# Altium footprint library PcbLib2.PcbLib: 27 footprints (part 1 of 2)
Each footprint in its own frame and in the unit in brackets; x right, y up, seen from the top. Pads: shape width x height; smd on the part's side, far side on the other; paste and mask are expansions set on the pad; w line width, h text height; cw(c..) or ccw(c..) is an arc to the next point about the centre after c.
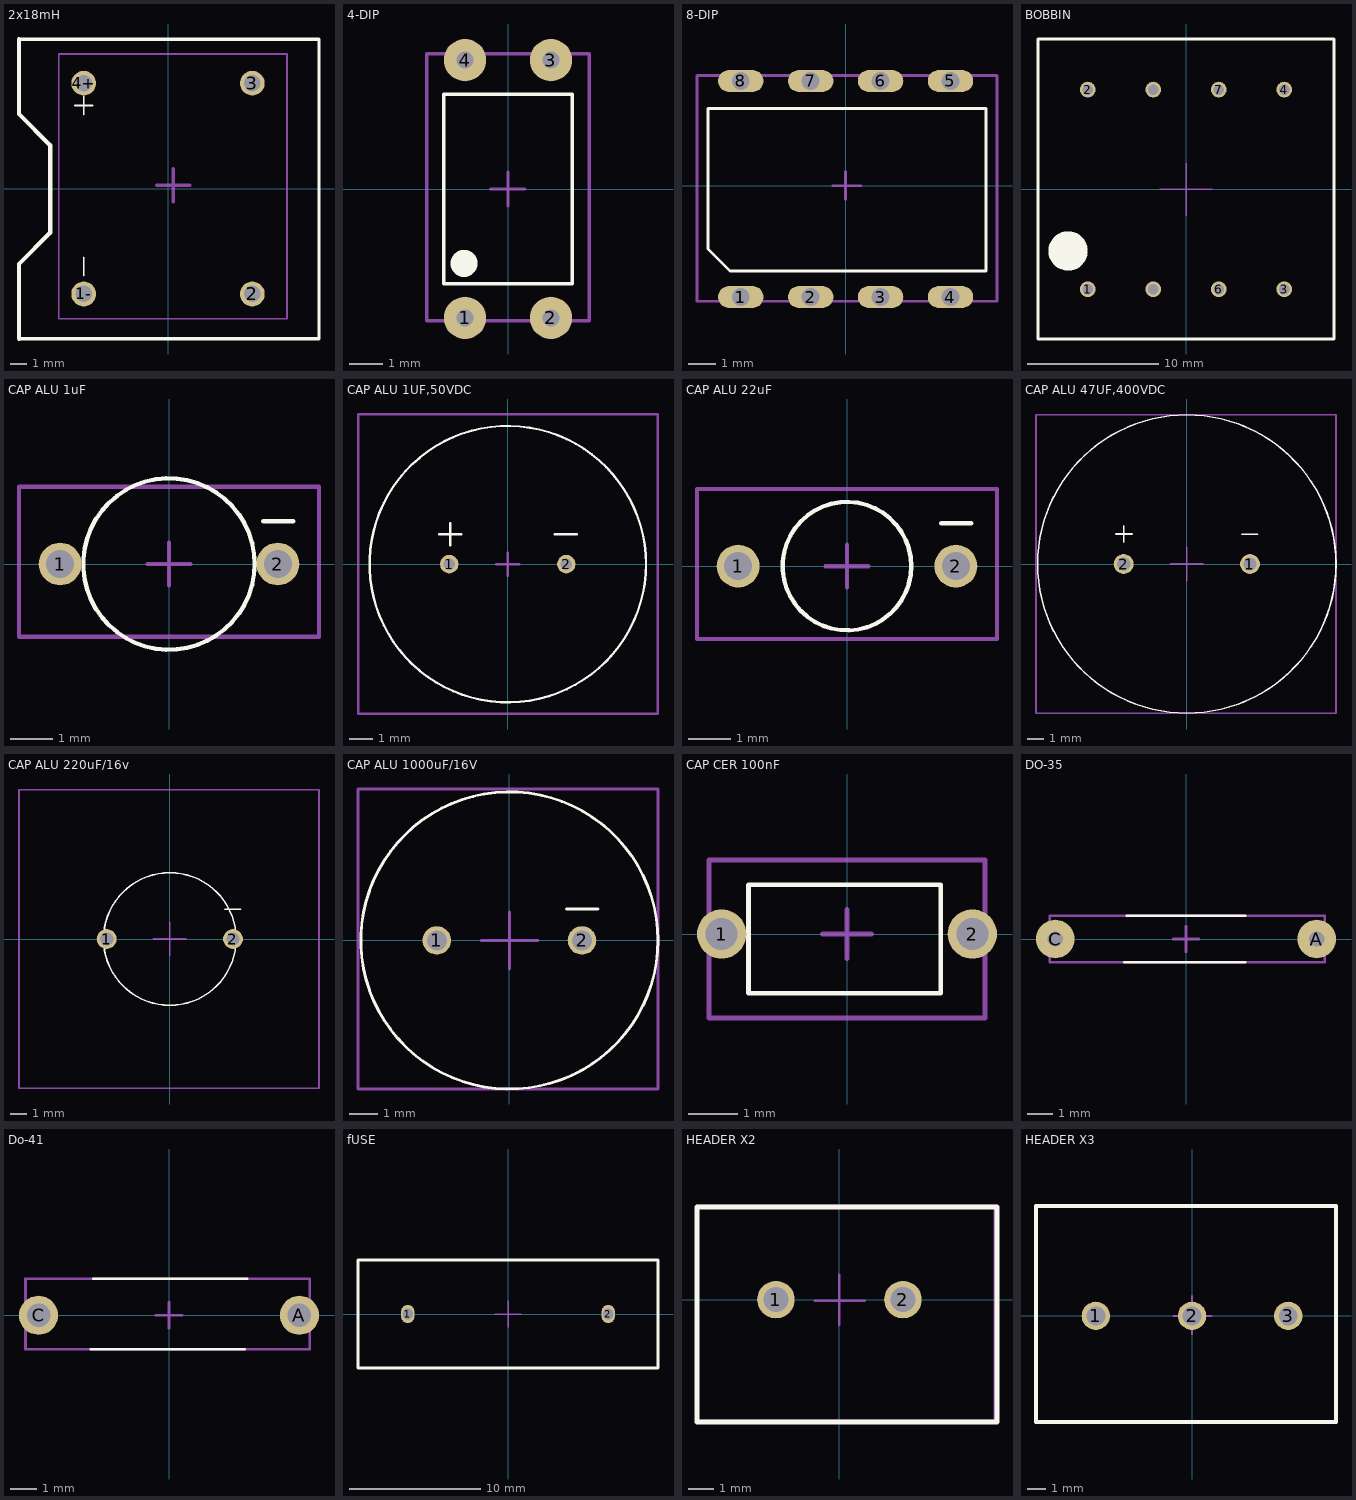
[diagram p0: the footprints below, top view; thin cyan lines are the x and y axes]

## 2x18mH [mm]
pads (4):
  round 1.5 hole 1 mask+0.05: 1-(-5.08,-6.35) 2(5.08,-6.35) 3(5.08,6.35) 4+(-5.08,6.35)
Top Overlay:
  lines w0.1: -5.63,5.01 -4.53,5.01 ; -5.08,-5.24 -5.08,-4.14 ; -5.08,4.46 -5.08,5.56
  lines w0.2: -8.98,-9.05 9.1,-9.05 9.1,9 -8.98,9
  lines w0.254: -8.98,-9.05 -8.98,-4.537 -7.1,-2.658 -7.1,2.608 -8.98,4.487 -8.98,9
Top Component Center (Mech3):
  lines w0.1: -6.58,-7.84 7.17,-7.84 7.17,8.11 -6.58,8.11 -6.58,-7.84
  lines w0.2: -0.68,0.21 1.32,0.21 ; 0.32,-0.79 0.32,1.21
Top Designator:
  lines w0.1: -6.58,-7.84 -6.58,8.11 7.17,8.11 7.17,-7.84 -6.58,-7.84
  text "'.Designator'" at -2.68,-0.29 h0.5
3D body "UU10A.STEP": height 17.3, standoff -2.3, extent -7.5,-8.392 7.5,8.4

## 4-DIP [mm]
pads (4):
  round 1.25 hole 0.5 mask+0.05: 1(-1.27,-3.81) 2(1.27,-3.81) 3(1.27,3.81) 4(-1.27,3.81)
Top Overlay:
  circle w0.6: c-1.3,-2.2 r0.1
  lines w0.1: -1.9,-2.8 -1.9,2.8 1.9,2.8 1.9,-2.8 -1.9,-2.8
Mechanical 1:
  lines w0.1: 2.4,-3.9 -2.4,-3.9 -2.4,4 2.4,4 ; 2.4,-3.9 2.4,4 ; 2.4,-3.9 2.4,4
Top Component Center (Mech3):
  lines w0.1: -0.505,0 0.495,0 ; 0,-0.5 0,0.5 ; 2.4,-3.9 2.4,4 ; 2.4,-3.9 2.4,4 ; 2.4,-3.9 -2.4,-3.9 -2.4,4 2.4,4
Top Designator:
  lines w0.1: 2.4,-3.9 -2.4,-3.9 -2.4,4 2.4,4 ; 2.4,-3.9 2.4,4 ; 2.4,-3.9 2.4,4
  text "'.Designator'" at -2.7,-0.4 h0.5
3D body "DIP4.STEP": height 5.2, standoff -2.1, extent -2.36,-3.935 2.36,3.935

## 8-DIP [mm]
pads (8):
  oval 1.65x0.8 hole 0.65 mask+0.05: 1(-3.81,-4.05) 2(-1.27,-4.05) 3(1.27,-4.05) 4(3.81,-4.05) 5(3.81,3.8) 6(1.27,3.8) 7(-1.27,3.8) 8(-3.81,3.8)
Top Overlay:
  lines w0.1: -5,-2.3 -5,2.8 5.1,2.8 5.1,-3.1 -4.2,-3.1 -5,-2.3
Mechanical 1:
  lines w0.1: -5.4,-4.2 5.5,-4.2 5.5,4 -5.4,4 -5.4,-4.2
Top Component Center (Mech3):
  lines w0.1: -0.464,-0.006 0.536,-0.006 ; 0,-0.5 0,0.5 ; -5.4,-4.2 -5.4,4 5.5,4 5.5,-4.2 -5.4,-4.2
Top Designator:
  lines w0.1: -5.4,-4.2 -5.4,4 5.5,4 5.5,-4.2 -5.4,-4.2
  text "'.Designator'" at -2.8,-0.4 h0.5
3D body "Minidip_STM.step": height 5.21, standoff -2.54, extent -5.422,-4.164 5.5,3.964

## BOBBIN [mm]
pads (8):
  round 1.2 hole 0.8 mask+0.05: 1(-7.5,-7.62) 2(-7.5,7.62) 3(7.5,-7.62) 4(7.5,7.62) 6(2.5,-7.62) 7(2.5,7.62) ""(-2.5,-7.62) ""(-2.5,7.62)
Top Overlay:
  circle w1.6: c-9,-4.7 r0.7
  lines w0.2: -11.3,-11.42 8.8,-11.42 11.3,-11.42 11.3,11.48 -11.3,11.48 -11.3,-11.42
Top Component Center (Mech3):
  lines w0.1: -2,0 2,0 ; 0,-2 0,2
Top Designator:
  text "'.Designator'" at -8.8,-1.2 h1.5
3D body "c61036-a0014-c001-E20-10.stp": height 5.91, standoff 0.01, extent -10.7,-10.12 -0.6,10.28
3D body "c61036-a0014-c001-E20-10.stp": height 5.91, standoff 0.01, extent 0.7,-10.12 10.8,10.28
3D body: height 8, standoff 0, extent -3.75,-4.5 3.75,4.5

## CAP ALU 1uF [mm]
pads (2):
  round 1 hole 0.65 mask+0.05: 1(-2.54,0) 2(2.54,0)
Top Overlay:
  circle w0.1: c0,0 r2
  lines w0.1: 2.2,1 2.9,1
Mechanical 1:
  lines w0.1: -3.5,-1.7 -3.5,1.8 3.5,1.8 3.5,-1.7 -3.5,-1.7
Top Component Center (Mech3):
  lines w0.1: -0.5,0 0.5,0 ; 0,-0.5 0,0.5 ; -3.5,-1.7 3.5,-1.7 3.5,1.8 -3.5,1.8 -3.5,-1.7
Top Designator:
  lines w0.1: -3.5,-1.7 3.5,-1.7 3.5,1.8 -3.5,1.8 -3.5,-1.7
  text "'.Designator'" at -3,-0.5 h0.5
3D body "CAP_2128_10X7X3_5_VIS.step": height 12.01, standoff -2.52, extent -3.505,-1.706 3.505,1.8

## CAP ALU 1UF,50VDC [mm]
pads (2):
  round 0.8 hole 0.5 mask+0.05: 1(-2.54,0) 2(2.54,0)
Top Overlay:
  circle w0.1: c0,0 r6
  lines w0.1: -2.987,1.3 -2.013,1.3 ; -2.5,0.813 -2.5,1.787 ; 2.025,1.3 3,1.3
Mechanical 1:
  lines w0.1: -6.48,-6.488 -6.48,6.512 6.52,6.512 6.52,-6.488 -6.48,-6.488
Top Component Center (Mech3):
  lines w0.1: -0.5,0 0.5,0 ; 0,-0.5 0,0.5 ; -6.5,-6.5 -6.5,6.5 6.5,6.5 6.5,-6.5 -6.5,-6.5
Top Designator:
  lines w0.1: -6.5,-6.5 -6.5,6.5 6.5,6.5 6.5,-6.5 -6.5,-6.5
  text "'.Designator'" at -2.8,-0.4 h0.5
3D body "D13_F5_LT(AP242).stp": height 15.3, standoff -4.1, extent -6.54,-6.5 6.463,6.5

## CAP ALU 22uF [mm]
pads (2):
  round 1 hole 0.65 mask+0.05: 1(-2.54,0) 2(2.54,0)
Top Overlay:
  circle w0.1: c0,0 r1.5
  lines w0.1: 2.2,1 2.9,1
Mechanical 1:
  lines w0.1: -3.5,-1.7 -3.5,1.8 3.5,1.8 3.5,-1.7 -3.5,-1.7
Top Component Center (Mech3):
  lines w0.1: -0.5,0 0.5,0 ; 0,-0.5 0,0.5 ; -3.5,-1.7 3.5,-1.7 3.5,1.8 -3.5,1.8 -3.5,-1.7
Top Designator:
  lines w0.1: -3.5,-1.7 3.5,-1.7 3.5,1.8 -3.5,1.8 -3.5,-1.7
  text "'.Designator'" at -3,-0.5 h0.5
3D body "CAP_2128_10X7X3_5_VIS.step": height 12.01, standoff -2.52, extent -3.505,-1.706 3.505,1.8

## CAP ALU 47UF,400VDC [mm]
pads (2):
  round 1.2 hole 0.8 mask+0.05: 1(3.81,0) 2(-3.81,0)
Top Overlay:
  circle w0.1: c0,0 r9
  lines w0.1: -4.287,1.813 -3.313,1.813 ; -3.8,1.325 -3.8,2.3 ; 3.313,1.8 4.287,1.8
Mechanical 1:
  lines w0.1: -9.1,-9 9,-9 9,9 -9.1,9 -9.1,-9
Top Component Center (Mech3):
  lines w0.1: -1,0 1,0 ; 0,-1 0,1 ; -9.1,-9 -9.1,9 9,9 9,-9 -9.1,-9
Top Designator:
  lines w0.1: -9.1,-9 -9.1,9 9,9 9,-9 -9.1,-9
  text "'.Designator'" at -3,-0.4 h0.5
3D body "CAP_UBY_18X20_NCH.step": height 22, standoff -4.48, extent -9.054,-9.001 8.99,9.001

## CAP ALU 220uF/16v [mm]
pads (2):
  round 1.2 hole 0.8 mask+0.05: 1(-3.81,0) 2(3.81,0)
Top Overlay:
  circle w0.1: c0,0 r4
  lines w0.1: 3.313,1.8 4.287,1.8
Mechanical 1:
  lines w0.1: -9.1,-9 9,-9 9,9 -9.1,9 -9.1,-9
Top Component Center (Mech3):
  lines w0.1: -1,0 1,0 ; 0,-1 0,1 ; -9.1,-9 -9.1,9 9,9 9,-9 -9.1,-9
Top Designator:
  lines w0.1: -9.1,-9 -9.1,9 9,9 9,-9 -9.1,-9
  text "'.Designator'" at -3,-0.4 h0.5
3D body "CAP_UBY_18X20_NCH.step": height 22, standoff -4.48, extent -9.054,-9.001 8.99,9.001

## CAP ALU 1000uF/16V [mm]
pads (2):
  round 1 hole 0.7 mask+0.05: 1(-2.54,0) 2(2.54,0)
Top Overlay:
  circle w0.1: c0,0 r5.2
  lines w0.1: 2,1.1 3.1,1.1
Mechanical 1:
  lines w0.1: -5.3,-5.2 5.2,-5.2 5.2,5.3 -5.3,5.3 -5.3,-5.2
Top Component Center (Mech3):
  lines w0.1: -1,0 1,0 ; 0,-1 0,1 ; -5.3,-5.2 -5.3,5.3 5.2,5.3 5.2,-5.2 -5.3,-5.2
Top Designator:
  lines w0.1: -5.3,-5.2 -5.3,5.3 5.2,5.3 5.2,-5.2 -5.3,-5.2
  text "'.Designator'" at -2.9,-0.4 h0.5
3D body "CAP_YX_10X16_RUB.step": height 14.21, standoff -4.17, extent -5.285,-5.242 5.229,5.242

## CAP CER 100nF [mm]
pads (2):
  round 1 hole 0.65 mask+0.05: 1(-2.54,0) 2(2.54,0)
Top Overlay:
  lines w0.1: -2,-1.2 -2,1 1.9,1 1.9,-1.2 -2,-1.2
Mechanical 1:
  lines w0.1: -2.8,-1.7 2.8,-1.7 2.8,1.5 -2.8,1.5 -2.8,-1.7
Top Component Center (Mech3):
  lines w0.1: -0.5,0 0.5,0 ; 0,-0.5 0,0.5 ; -2.8,-1.7 -2.8,1.5 2.8,1.5 2.8,-1.7 -2.8,-1.7
Top Designator:
  lines w0.1: -2.8,-1.7 -2.8,1.5 2.8,1.5 2.8,-1.7 -2.8,-1.7
  text "'.Designator'" at -3,-0.5 h0.5
3D body "C322C104K5R5TA.step": height 7.83, standoff -5.79, extent -2.81,-1.685 2.823,1.5

## DO-35 [mm]
pads (2):
  round 1.5 hole 0.6 mask+0.05: A(5.08,0) C(-5.08,0)
Top Overlay:
  lines w0.1: -2.4,-0.9 2.3,-0.9 ; -2.3,0.9 2.3,0.9
Mechanical 1:
  lines w0.1: -5.3,-0.9 -5.3,0.9 5.4,0.9 5.4,-0.9 -5.3,-0.9
Top Component Center (Mech3):
  lines w0.1: -0.5,0 0.5,0 ; 0,-0.5 0,0.5 ; -5.3,-0.9 5.4,-0.9 5.4,0.9 -5.3,0.9 -5.3,-0.9
Top Designator:
  lines w0.1: -5.3,-0.9 5.4,-0.9 5.4,0.9 -5.3,0.9 -5.3,-0.9
  text "'.Designator'" at -1.1,-0.2 h0.2
3D body "User Library-do_35.step": height 2.25, standoff -2.44, extent -5.327,-0.9 5.366,0.853

## Do-41 [mm]
pads (2):
  round 1.5 hole 0.9 mask+0.05: A(5,0) C(-5,0)
Top Overlay:
  lines w0.1: -3,-1.3 2.9,-1.3 ; -2.9,1.4 3,1.4
Mechanical 1:
  lines w0.1: -5.5,-1.3 5.4,-1.3 5.4,1.4 -5.5,1.4 -5.5,-1.3
Top Component Center (Mech3):
  lines w0.1: -0.5,0 0.5,0 ; 0,-0.5 0,0.5 ; -5.5,-1.3 5.4,-1.3 5.4,1.4 -5.5,1.4 -5.5,-1.3
Top Designator:
  lines w0.1: -5.5,-1.3 -5.5,1.4 5.4,1.4 5.4,-1.3 -5.5,-1.3
  text "'.Designator'" at -1.1,-0.2 h0.2
3D body "User Library-DO-41 10mm.step": height 2.86, standoff -2.5, extent -5.45,-1.312 5.41,1.413

## fUSE [mm]
pads (2):
  oval 1x1.4 hole 0.8 mask+0.05: 1(-7.62,0) 2(7.62,0)
Top Overlay:
  lines w0.2: -11.4,-4.1 -11.4,4.1 11.4,4.1 11.4,-4.1 -11.4,-4.1
Mechanical 1:
  lines w0.1: -11.4,-4.1 11.4,-4.1 11.4,4.1 -11.4,4.1 -11.4,-4.1
Top Component Center (Mech3):
  lines w0.1: -1,0 1,0 ; 0,-1 0,1 ; -11.4,-4.1 -11.4,4.1 11.4,4.1 11.4,-4.1 -11.4,-4.1
Top Designator:
  text "'.Designator'" at -3,-0.4 h0.5
3D body "Fuse Holder.STEP": height 10.21, standoff -5.99, extent -11.4,-4.1 11.4,4.1

## HEADER X2 [mm]
pads (2):
  round 1.5 hole 1 mask+0.05: 1(-2.54,0) 2(2.54,0)
Top Overlay:
  lines w0.2: -5.7,-4.9 -5.7,3.7 6.3,3.7 6.3,-4.9 -5.7,-4.9
Mechanical 1:
  lines w0.1: -5.7,-4.9 -5.7,3.7 6.2,3.7 6.2,-4.9 -5.7,-4.9
Top Component Center (Mech3):
  lines w0.1: -0.983,-0.051 1.017,-0.051 ; 0,-1 0,1 ; -5.7,-4.849 -5.7,3.751 6.3,3.751 6.3,-4.849 -5.7,-4.849
Top Designator:
  lines w0.1: -5.7,-4.9 -5.7,3.7 6.3,3.7 6.3,-4.9 -5.7,-4.9
  text "'.Designator'" at -5.6,-0.9 h1
3D body "velleman_145849.step": height 11.81, standoff -2.99, extent -5.65,-4.9 6.25,3.664

## HEADER X3 [mm]
pads (3):
  round 1.5 hole 1 mask+0.05: 1(-5.08,0) 2(0,0) 3(5.08,0)
Top Overlay:
  lines w0.2: -8.24,-5.6 -8.24,5.8 7.6,5.8 7.6,-5.6 -8.24,-5.6
Mechanical 1:
  lines w0.1: -8.24,-5.6 -8.24,5.8 7.6,5.8 7.6,-5.6 -8.24,-5.6
Top Component Center (Mech3):
  lines w0.1: -0.983,0 1.017,0 ; 0,-0.949 0,1.051 ; -8.24,-5.6 -8.24,5.8 7.6,5.8 7.6,-5.6 -8.24,-5.6
Top Designator:
  lines w0.1: -8.24,-5.6 -8.24,5.8 7.6,5.8 7.6,-5.6 -8.24,-5.6
  text "'.Designator'" at -6,-0.8 h1
3D body "691236510003.stp": height 18.4, standoff -3.6, extent -8.24,-5.475 7.6,5.875